# EAGLE library part EB-500 (library barthess)
GPS receiver
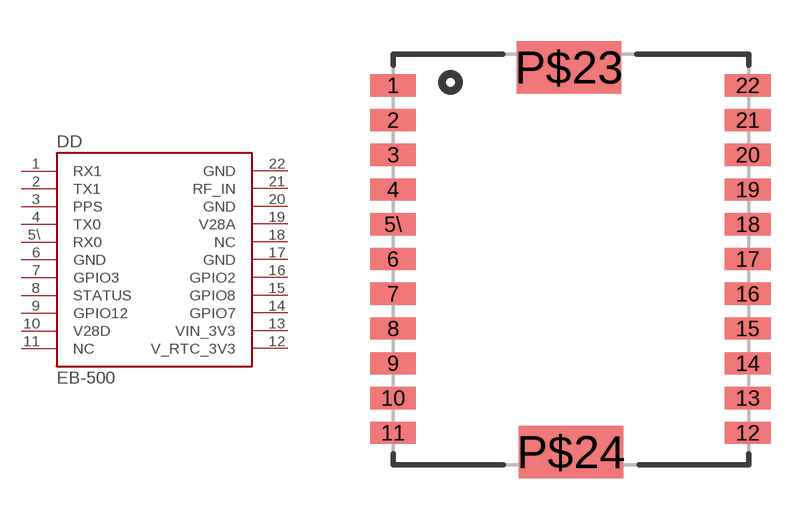
[diagram p6: symbol with the pads of EB-500; footprint EB-500]

Designator prefix DD

## EB-500  [EB-500]
1  RX1  in
2  TX1  out
3  PPS  out
4  TX0  out
5\  RX0  in
6  GND  pwr
7  GPIO3
8  STATUS  out
9  GPIO12
10  V28D
11  NC  nc
12  V_RTC_3V3  pwr
13  VIN_3V3  pwr
14  GPIO7
15  GPIO8
16  GPIO2
17  GND  pwr
18  NC  nc
19  V28A
20  GND  pwr
21  RF_IN  in
22  GND  pwr

## Footprint EB-500 (pad centres in mm)
smd 1.676 x 0.813: 1 -6.35,6.35; 2 -6.35,5.08; 3 -6.35,3.81; 4 -6.35,2.54; 5\ -6.35,1.27; 6 -6.35,0; 7 -6.35,-1.27; 8 -6.35,-2.54; 9 -6.35,-3.81; 10 -6.35,-5.08; 11 -6.35,-6.35; 12 6.604,-6.35; 13 6.604,-5.08; 14 6.604,-3.81; 15 6.604,-2.54; 16 6.604,-1.27; 17 6.604,0; 18 6.604,1.27; 19 6.604,2.54; 20 6.604,3.81; 21 6.604,5.08; 22 6.604,6.35
smd 3.81 x 1.93: P$23 0.08,7.005; P$24 0.15,-7.055